# Altium schematic symbol library MOSFET Drivers.SchLib: 1 symbol
Pins are listed as number, name and electrical type; pins without a type are passive.

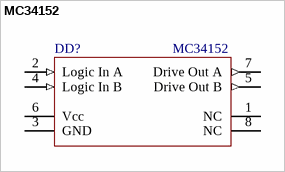
[diagram p0: symbol MC34152]

## MC34152
designator DD?
High Speed Dual  MOSFET Drivers
footprint SOIC127P600X175-8N (SOIC, 8-Leads, Body 4,90x3,90mm, Pitch 1,27mm, IPC Medium Density)
pins: 1 NC, 2 Logic In A (in), 3 GND (power), 4 Logic In B (in), 5 Drive Out B (out), 6 Vcc (power), 7 Drive Out A (out), 8 NC